# Altium footprint library PcbLib1.PcbLib: 6 footprints
Each footprint in its own frame and in the unit in brackets; x right, y up, seen from the top. Pads: shape width x height; smd on the part's side, far side on the other; paste and mask are expansions set on the pad; w line width, h text height; cw(c..) or ccw(c..) is an arc to the next point about the centre after c.
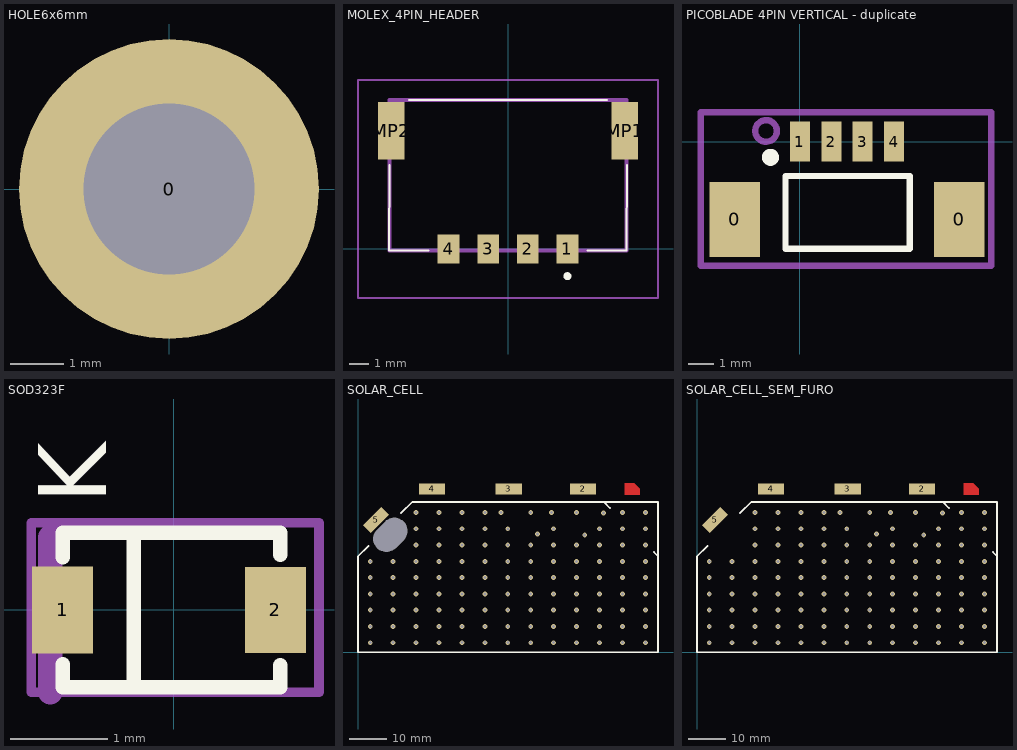
[diagram p0: the footprints below, top view; thin cyan lines are the x and y axes]

## HOLE6x6mm [mm]
pads (1):
  round 5.6 hole 3.2: 0(0,0)

## MOLEX_4PIN_HEADER [mm] "PDM number 205338-0004"
pads (6):
  rect 1.1x1.45 smd: 1(3,0) 2(1,0) 3(-1,0) 4(-3,0)
  rect 1.35x2.9 smd: MP1(5.895,5.975) MP2(-5.895,5.975)
Top Overlay:
  lines w0.1: -6,-0.075 -5.975,4.225 ; -5.975,-0.075 -4,-0.075 ; -5,7.525 5,7.525 ; 4,-0.075 5.975,-0.075 6,4.225
  lines w0.2: 3,-1.475 ccw(c3,-1.375) 3,-1.275 ccw(c3,-1.375) 3,-1.475
Mechanical 13:
  lines w0.2: -5.975,-0.075 -5.975,7.525 5.975,7.525 5.975,-0.075 -5.975,-0.075
Mechanical 15:
  lines w0.1: -7.57,-2.475 -7.57,8.525 7.57,8.525 7.57,-2.475 -7.57,-2.475
3D body "205338-0004.stp": height 2.6, standoff 0, extent -6.375,-0.95 6.375,7

## PICOBLADE 4PIN VERTICAL - duplicate [mm]
height 3.1
pads (6):
  rect 2x3 smd: 0(-2.6,-3.1) 0(6.35,-3.1)
  rect 0.8x1.6 smd: 1(0,0) 2(1.25,0) 3(2.5,0) 4(3.75,0)
Top Overlay:
  circle w0.5: c-1.175,-0.625 r0.09
  lines w0.254: -0.574,-4.275 4.375,-4.275 4.375,-1.372 -0.574,-1.372 -0.574,-4.275
Mechanical 15:
  circle w0.254: c-1.35,0.425 r0.432
  lines w0.254: -3.95,-4.95 7.625,-4.95 7.625,1.175 -3.95,1.175 -3.95,-4.95
  text ".Designator" at -3.341,-1.212 h0.89
3D body "User Library-molex 5339853398-0471.STEP": height 4.7, standoff 0, extent -3.15,-4.425 7,-0.225

## SOD323F [mm] "Diode SMD22WS-TP"
pads (2):
  rect 0.63x0.9 smd mask+0.05: 1(-1.15,0)
  rect 0.63x0.89 smd mask+0.05: 2(1.05,0)
Top Overlay:
  lines w0.15: -1.15,-0.8 1.1,-0.8 1.1,-0.571 ; -1.15,-0.79 -1.15,-0.562 ; -1.15,0.546 -1.15,0.775 ; -1.15,0.8 1.1,0.8 1.1,0.571 ; -0.413,-0.8 -0.413,0.8
  text "K" at -0.7,1.1 h0.7
Mechanical 15:
  lines w0.1: -1.475,-0.85 -1.475,0.9 1.5,0.9 1.5,-0.85 -1.475,-0.85
  lines w0.254: -1.275,-0.85 -1.275,0.75
  text ".Designator" at -1.125,-0.2 h0.89
3D body "User Library-SOD323F.STEP": height 0.75, standoff -0.01, extent -1.451,-0.675 1.349,0.675

## SOLAR_CELL [mm]
pads (6):
  round 0.025 smd: 1(73.8,43.625)
  rect 7x3 smd: 2(60.15,43.625) 3(40.275,43.625) 4(19.8,43.625)
  rect 7x3 smd rot 45: 5(4.83,35.34)
  round 0 hole 7 slot 10 at 45 deg unplated: ""(8.65,31.35)
via 3.275,24.275 diameter 1.3 hole 0.8
via 52.275,19.925 diameter 1.3 hole 0.8
via 58.4,19.925 diameter 1.3 hole 0.8
via 64.525,19.925 diameter 1.3 hole 0.8
via 70.65,19.925 diameter 1.3 hole 0.8
via 76.775,19.925 diameter 1.3 hole 0.8
via 52.275,15.575 diameter 1.3 hole 0.8
via 58.4,15.575 diameter 1.3 hole 0.8
via 64.525,15.575 diameter 1.3 hole 0.8
via 70.65,15.575 diameter 1.3 hole 0.8
via 76.775,15.575 diameter 1.3 hole 0.8
via 52.275,11.225 diameter 1.3 hole 0.8
via 58.4,11.225 diameter 1.3 hole 0.8
via 64.525,11.225 diameter 1.3 hole 0.8
via 70.65,11.225 diameter 1.3 hole 0.8
via 76.775,11.225 diameter 1.3 hole 0.8
via 52.275,6.875 diameter 1.3 hole 0.8
via 58.4,6.875 diameter 1.3 hole 0.8
via 64.525,6.875 diameter 1.3 hole 0.8
via 70.65,6.875 diameter 1.3 hole 0.8
via 76.775,6.875 diameter 1.3 hole 0.8
via 52.275,2.525 diameter 1.3 hole 0.8
via 58.4,2.525 diameter 1.3 hole 0.8
via 64.525,2.525 diameter 1.3 hole 0.8
via 70.65,2.525 diameter 1.3 hole 0.8
via 76.775,2.525 diameter 1.3 hole 0.8
via 46.15,15.575 diameter 1.3 hole 0.8
via 40.025,15.575 diameter 1.3 hole 0.8
via 33.9,15.575 diameter 1.3 hole 0.8
via 27.775,15.575 diameter 1.3 hole 0.8
via 21.65,15.575 diameter 1.3 hole 0.8
via 15.525,15.575 diameter 1.3 hole 0.8
via 9.4,15.575 diameter 1.3 hole 0.8
via 3.275,15.575 diameter 1.3 hole 0.8
via 46.15,11.225 diameter 1.3 hole 0.8
via 40.025,11.225 diameter 1.3 hole 0.8
via 33.9,11.225 diameter 1.3 hole 0.8
via 27.775,11.225 diameter 1.3 hole 0.8
via 21.65,11.225 diameter 1.3 hole 0.8
via 15.525,11.225 diameter 1.3 hole 0.8
via 9.4,11.225 diameter 1.3 hole 0.8
via 3.275,11.225 diameter 1.3 hole 0.8
via 46.15,6.875 diameter 1.3 hole 0.8
via 40.025,6.875 diameter 1.3 hole 0.8
via 33.9,6.875 diameter 1.3 hole 0.8
via 27.775,6.875 diameter 1.3 hole 0.8
via 21.65,6.875 diameter 1.3 hole 0.8
via 15.525,6.875 diameter 1.3 hole 0.8
via 9.4,6.875 diameter 1.3 hole 0.8
via 3.275,6.875 diameter 1.3 hole 0.8
via 46.15,2.525 diameter 1.3 hole 0.8
via 40.025,2.525 diameter 1.3 hole 0.8
via 33.9,2.525 diameter 1.3 hole 0.8
via 27.775,2.525 diameter 1.3 hole 0.8
via 21.65,2.525 diameter 1.3 hole 0.8
via 15.525,2.525 diameter 1.3 hole 0.8
via 9.4,2.525 diameter 1.3 hole 0.8
via 3.275,2.525 diameter 1.3 hole 0.8
via 52.275,24.275 diameter 1.3 hole 0.8
via 46.15,24.275 diameter 1.3 hole 0.8
via 40.025,24.275 diameter 1.3 hole 0.8
via 33.9,24.275 diameter 1.3 hole 0.8
via 27.775,24.275 diameter 1.3 hole 0.8
via 21.65,24.275 diameter 1.3 hole 0.8
via 15.525,24.275 diameter 1.3 hole 0.8
via 9.4,24.275 diameter 1.3 hole 0.8
via 58.4,24.275 diameter 1.3 hole 0.8
via 46.15,19.925 diameter 1.3 hole 0.8
via 40.025,19.925 diameter 1.3 hole 0.8
via 33.9,19.925 diameter 1.3 hole 0.8
via 27.775,19.925 diameter 1.3 hole 0.8
via 21.65,19.925 diameter 1.3 hole 0.8
via 15.525,19.925 diameter 1.3 hole 0.8
via 9.4,19.925 diameter 1.3 hole 0.8
via 3.275,19.925 diameter 1.3 hole 0.8
via 76.775,28.625 diameter 1.3 hole 0.8
via 52.275,28.625 diameter 1.3 hole 0.8
via 46.15,28.625 diameter 1.3 hole 0.8
via 40.025,28.625 diameter 1.3 hole 0.8
via 33.9,28.625 diameter 1.3 hole 0.8
via 27.775,28.625 diameter 1.3 hole 0.8
via 21.65,28.625 diameter 1.3 hole 0.8
via 15.525,28.625 diameter 1.3 hole 0.8
via 58.4,28.625 diameter 1.3 hole 0.8
via 64.525,28.625 diameter 1.3 hole 0.8
via 70.65,28.625 diameter 1.3 hole 0.8
via 64.525,24.275 diameter 1.3 hole 0.8
via 70.65,24.275 diameter 1.3 hole 0.8
via 76.775,24.275 diameter 1.3 hole 0.8
via 52.275,32.975 diameter 1.3 hole 0.8
via 40.025,32.975 diameter 1.3 hole 0.8
via 76.775,32.975 diameter 1.3 hole 0.8
via 76.775,37.325 diameter 1.3 hole 0.8
via 70.65,37.325 diameter 1.3 hole 0.8
via 51.7,37.3 diameter 1.3 hole 0.8
via 46.15,37.325 diameter 1.3 hole 0.8
via 38.225,37.325 diameter 1.3 hole 0.8
via 58.4,37.325 diameter 1.3 hole 0.8
via 65.625,37.2 diameter 1.3 hole 0.8
via 47.95,31.625 diameter 1.3 hole 0.8
via 60.575,31.3 diameter 1.3 hole 0.8
via 64.525,32.975 diameter 1.3 hole 0.8
via 70.65,32.975 diameter 1.3 hole 0.8
via 33.9,37.325 diameter 1.3 hole 0.8
via 27.775,37.325 diameter 1.3 hole 0.8
via 21.65,37.325 diameter 1.3 hole 0.8
via 33.9,32.975 diameter 1.3 hole 0.8
via 27.775,32.975 diameter 1.3 hole 0.8
via 21.65,32.975 diameter 1.3 hole 0.8
via 15.525,37.325 diameter 1.3 hole 0.8
via 15.525,32.975 diameter 1.3 hole 0.8
Top Layer:
  region: 75.25,42.125 71.25,42.125 71.25,45.125 73.75,45.125 75.25,43.625
Top Overlay:
  lines w0.5: 2.763,28.363 0,25.6 0,0 80.15,0 ; 11.461,37.166 14.564,40.164 65.656,40.164 ; 67.333,38.483 65.656,40.16 80.1,40.16 ; 79.046,26.771 80.156,25.66 ; 80.156,0.006 80.156,25.66 ; 80.156,40.16 80.156,25.66
3D body "Design6.stp": height 0.22, standoff 0.07, extent 0.125,0.075 80.125,40.075

## SOLAR_CELL_SEM_FURO [mm]
pads (5):
  round 0.025 smd: 1(73.8,43.625)
  rect 7x3 smd: 2(60.15,43.625) 3(40.275,43.625) 4(19.8,43.625)
  rect 7x3 smd rot 45: 5(4.83,35.34)
via 3.275,24.275 diameter 1.3 hole 0.8
via 52.275,19.925 diameter 1.3 hole 0.8
via 58.4,19.925 diameter 1.3 hole 0.8
via 64.525,19.925 diameter 1.3 hole 0.8
via 70.65,19.925 diameter 1.3 hole 0.8
via 76.775,19.925 diameter 1.3 hole 0.8
via 52.275,15.575 diameter 1.3 hole 0.8
via 58.4,15.575 diameter 1.3 hole 0.8
via 64.525,15.575 diameter 1.3 hole 0.8
via 70.65,15.575 diameter 1.3 hole 0.8
via 76.775,15.575 diameter 1.3 hole 0.8
via 52.275,11.225 diameter 1.3 hole 0.8
via 58.4,11.225 diameter 1.3 hole 0.8
via 64.525,11.225 diameter 1.3 hole 0.8
via 70.65,11.225 diameter 1.3 hole 0.8
via 76.775,11.225 diameter 1.3 hole 0.8
via 52.275,6.875 diameter 1.3 hole 0.8
via 58.4,6.875 diameter 1.3 hole 0.8
via 64.525,6.875 diameter 1.3 hole 0.8
via 70.65,6.875 diameter 1.3 hole 0.8
via 76.775,6.875 diameter 1.3 hole 0.8
via 52.275,2.525 diameter 1.3 hole 0.8
via 58.4,2.525 diameter 1.3 hole 0.8
via 64.525,2.525 diameter 1.3 hole 0.8
via 70.65,2.525 diameter 1.3 hole 0.8
via 76.775,2.525 diameter 1.3 hole 0.8
via 46.15,15.575 diameter 1.3 hole 0.8
via 40.025,15.575 diameter 1.3 hole 0.8
via 33.9,15.575 diameter 1.3 hole 0.8
via 27.775,15.575 diameter 1.3 hole 0.8
via 21.65,15.575 diameter 1.3 hole 0.8
via 15.525,15.575 diameter 1.3 hole 0.8
via 9.4,15.575 diameter 1.3 hole 0.8
via 3.275,15.575 diameter 1.3 hole 0.8
via 46.15,11.225 diameter 1.3 hole 0.8
via 40.025,11.225 diameter 1.3 hole 0.8
via 33.9,11.225 diameter 1.3 hole 0.8
via 27.775,11.225 diameter 1.3 hole 0.8
via 21.65,11.225 diameter 1.3 hole 0.8
via 15.525,11.225 diameter 1.3 hole 0.8
via 9.4,11.225 diameter 1.3 hole 0.8
via 3.275,11.225 diameter 1.3 hole 0.8
via 46.15,6.875 diameter 1.3 hole 0.8
via 40.025,6.875 diameter 1.3 hole 0.8
via 33.9,6.875 diameter 1.3 hole 0.8
via 27.775,6.875 diameter 1.3 hole 0.8
via 21.65,6.875 diameter 1.3 hole 0.8
via 15.525,6.875 diameter 1.3 hole 0.8
via 9.4,6.875 diameter 1.3 hole 0.8
via 3.275,6.875 diameter 1.3 hole 0.8
via 46.15,2.525 diameter 1.3 hole 0.8
via 40.025,2.525 diameter 1.3 hole 0.8
via 33.9,2.525 diameter 1.3 hole 0.8
via 27.775,2.525 diameter 1.3 hole 0.8
via 21.65,2.525 diameter 1.3 hole 0.8
via 15.525,2.525 diameter 1.3 hole 0.8
via 9.4,2.525 diameter 1.3 hole 0.8
via 3.275,2.525 diameter 1.3 hole 0.8
via 52.275,24.275 diameter 1.3 hole 0.8
via 46.15,24.275 diameter 1.3 hole 0.8
via 40.025,24.275 diameter 1.3 hole 0.8
via 33.9,24.275 diameter 1.3 hole 0.8
via 27.775,24.275 diameter 1.3 hole 0.8
via 21.65,24.275 diameter 1.3 hole 0.8
via 15.525,24.275 diameter 1.3 hole 0.8
via 9.4,24.275 diameter 1.3 hole 0.8
via 58.4,24.275 diameter 1.3 hole 0.8
via 46.15,19.925 diameter 1.3 hole 0.8
via 40.025,19.925 diameter 1.3 hole 0.8
via 33.9,19.925 diameter 1.3 hole 0.8
via 27.775,19.925 diameter 1.3 hole 0.8
via 21.65,19.925 diameter 1.3 hole 0.8
via 15.525,19.925 diameter 1.3 hole 0.8
via 9.4,19.925 diameter 1.3 hole 0.8
via 3.275,19.925 diameter 1.3 hole 0.8
via 76.775,28.625 diameter 1.3 hole 0.8
via 52.275,28.625 diameter 1.3 hole 0.8
via 46.15,28.625 diameter 1.3 hole 0.8
via 40.025,28.625 diameter 1.3 hole 0.8
via 33.9,28.625 diameter 1.3 hole 0.8
via 27.775,28.625 diameter 1.3 hole 0.8
via 21.65,28.625 diameter 1.3 hole 0.8
via 15.525,28.625 diameter 1.3 hole 0.8
via 58.4,28.625 diameter 1.3 hole 0.8
via 64.525,28.625 diameter 1.3 hole 0.8
via 70.65,28.625 diameter 1.3 hole 0.8
via 64.525,24.275 diameter 1.3 hole 0.8
via 70.65,24.275 diameter 1.3 hole 0.8
via 76.775,24.275 diameter 1.3 hole 0.8
via 52.275,32.975 diameter 1.3 hole 0.8
via 40.025,32.975 diameter 1.3 hole 0.8
via 76.775,32.975 diameter 1.3 hole 0.8
via 76.775,37.325 diameter 1.3 hole 0.8
via 70.65,37.325 diameter 1.3 hole 0.8
via 51.7,37.3 diameter 1.3 hole 0.8
via 46.15,37.325 diameter 1.3 hole 0.8
via 38.225,37.325 diameter 1.3 hole 0.8
via 58.4,37.325 diameter 1.3 hole 0.8
via 65.625,37.2 diameter 1.3 hole 0.8
via 47.95,31.625 diameter 1.3 hole 0.8
via 60.575,31.3 diameter 1.3 hole 0.8
via 64.525,32.975 diameter 1.3 hole 0.8
via 70.65,32.975 diameter 1.3 hole 0.8
via 33.9,37.325 diameter 1.3 hole 0.8
via 27.775,37.325 diameter 1.3 hole 0.8
via 21.65,37.325 diameter 1.3 hole 0.8
via 33.9,32.975 diameter 1.3 hole 0.8
via 27.775,32.975 diameter 1.3 hole 0.8
via 21.65,32.975 diameter 1.3 hole 0.8
via 15.525,37.325 diameter 1.3 hole 0.8
via 15.525,32.975 diameter 1.3 hole 0.8
Top Layer:
  region: 75.25,42.125 71.25,42.125 71.25,45.125 73.75,45.125 75.25,43.625
Top Overlay:
  lines w0.5: 2.763,28.363 0,25.6 0,0 80.15,0 ; 11.461,37.166 14.564,40.164 65.656,40.164 ; 67.333,38.483 65.656,40.16 80.1,40.16 ; 79.046,26.771 80.156,25.66 ; 80.156,0.006 80.156,25.66 ; 80.156,40.16 80.156,25.66
3D body "Design6.stp": height 0.22, standoff 0.07, extent 0.125,0.075 80.125,40.075